# Altium footprint library ZM5304.PcbLib: 1 footprints
Each footprint in its own frame and in the unit in brackets; x right, y up, seen from the top. Pads: shape width x height; smd on the part's side, far side on the other; paste and mask are expansions set on the pad; w line width, h text height; cw(c..) or ccw(c..) is an arc to the next point about the centre after c.
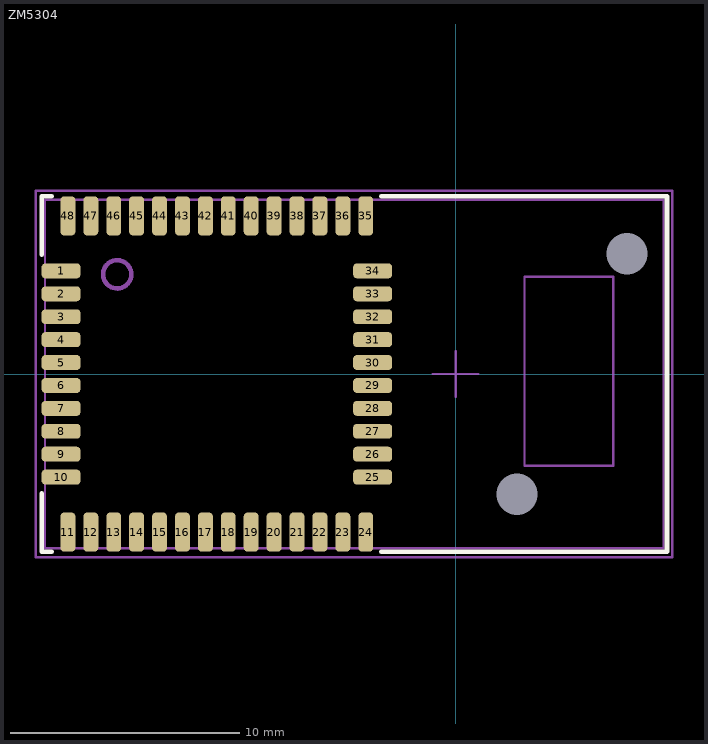
[diagram p0: the footprint, top view; thin cyan lines are the x and y axes]

## ZM5304 [mm] "ZM5304"
pads (50):
  rect 0.25x0.275 hole 1.8 unplated: 0(2.675,-5.25) 0(7.475,5.25)
  rrect50% 1.7x0.65 smd: 1(-17.225,4.5) 2(-17.225,3.5) 3(-17.225,2.5) 4(-17.225,1.5) 5(-17.225,0.5) 6(-17.225,-0.5) 7(-17.225,-1.5) 8(-17.225,-2.5) 9(-17.225,-3.5) 10(-17.225,-4.5) 25(-3.625,-4.5) 26(-3.625,-3.5) 27(-3.625,-2.5) 28(-3.625,-1.5) 29(-3.625,-0.5) 30(-3.625,0.5) 31(-3.625,1.5) 32(-3.625,2.5) 33(-3.625,3.5) 34(-3.625,4.5)
  rrect50% 0.65x1.7 smd: 11(-16.925,-6.9) 12(-15.925,-6.9) 13(-14.925,-6.9) 14(-13.925,-6.9) 15(-12.925,-6.9) 16(-11.925,-6.9) 17(-10.925,-6.9) 18(-9.925,-6.9) 19(-8.925,-6.9) 20(-7.925,-6.9) 21(-6.925,-6.9) 22(-5.925,-6.9) 23(-4.925,-6.9) 24(-3.925,-6.9) 35(-3.925,6.9) 36(-4.925,6.9) 37(-5.925,6.9) 38(-6.925,6.9) 39(-7.925,6.9) 40(-8.925,6.9) 41(-9.925,6.9) 42(-10.925,6.9) 43(-11.925,6.9) 44(-12.925,6.9) 45(-13.925,6.9) 46(-14.925,6.9) 47(-15.925,6.9) 48(-16.925,6.9)
Top Overlay:
  lines w0.2: -18.075,-5.2 -18.075,-7.75 -17.625,-7.75 ; -18.075,5.2 -18.075,7.75 -17.625,7.75 ; -3.25,-7.75 9.225,-7.75 9.225,7.75 -3.25,7.75
Mechanical 13:
  circle w0.2: c-14.775,4.35 r0.617
  lines w0.1: -17.925,-7.6 9.075,-7.6 9.075,7.6 -17.925,7.6 -17.925,-7.6 ; 3,-4 6.875,-4 6.875,4.25 3,4.25 3,-4
Mechanical 15:
  lines w0.1: -1,0 1,0 ; 0,-1 0,1 ; -18.325,-8 -18.325,8 9.45,8 9.45,-8 -18.325,-8
3D body: height 5.22, standoff 0, extent -17.925,-7.6 9.075,7.6